# EAGLE library part UA741CP (library PFE)
Single op-amp,UA741CP 1MHz DIP8, tube Texas Instruments UA741CP Op Amp, 1MHz, 8-Pin PDIP Source: Datasheet <http://www.ti.com/lit/ds/symlink/ua741.pdf>
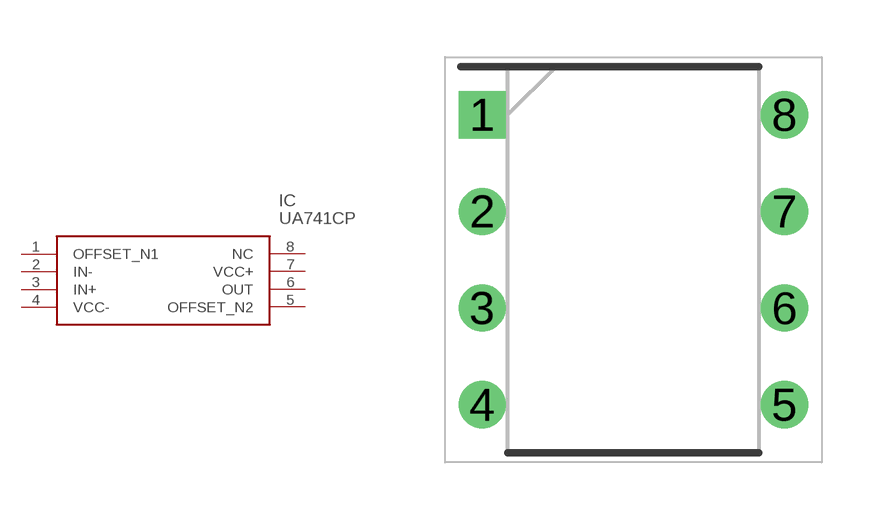
[diagram p0: symbol with the pads of DIP794W53P254L959H508Q8N; footprint DIP794W53P254L959H508Q8N]

Designator prefix IC

## UA741CP (DESCRIPTION: Single op-amp,UA741CP 1MHz DIP8, tube Texas Instruments UA741CP Op Amp, 1MHz, 8-Pin PDIP; HEIGHT: 5.08mm; MANUFACTURER_NAME: Texas Instruments; MANUFACTURER_PART_NUMBER: UA741CP; MOUSER_PART_NUMBER: 595-UA741CP; MOUSER_PRICE-STOCK: https://www.mouser.com/Search/Refine.aspx?Keyword=595-UA741CP; RS_PART_NUMBER: 0305311P; RS_PRICE-STOCK: http://uk.rs-online.com/web/p/products/0305311P)  [DIP794W53P254L959H508Q8N]
1  OFFSET_N1
2  IN-  in
3  IN+  in
4  VCC-  pwr
5  OFFSET_N2
6  OUT  out
7  VCC+  pwr
8  NC  nc

## Footprint DIP794W53P254L959H508Q8N (pad centres in mm)
P (R-PDIP-T8)
drill 0.73 pad 1.13 square: 1 -3.97,3.81
drill 0.73 pad 1.13: 2 -3.97,1.27; 3 -3.97,-1.27; 4 -3.97,-3.81; 5 3.97,-3.81; 6 3.97,-1.27; 7 3.97,1.27; 8 3.97,3.81